# Altium footprint library FPGAlib.PcbLib: 18 footprints (part 2 of 2)
Each footprint in its own frame and in the unit in brackets; x right, y up, seen from the top. Pads: shape width x height; smd on the part's side, far side on the other; paste and mask are expansions set on the pad; w line width, h text height; cw(c..) or ccw(c..) is an arc to the next point about the centre after c.
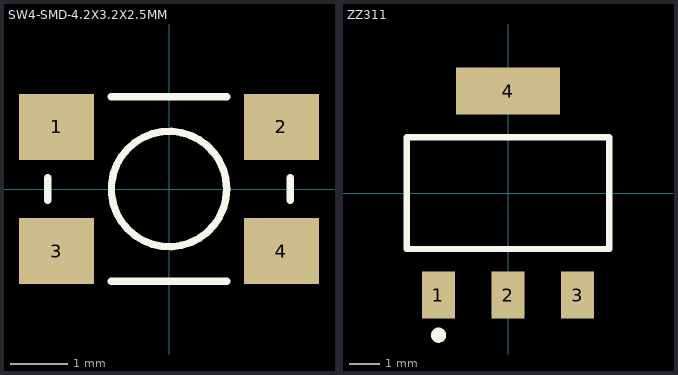
[diagram p1: the footprints below, top view; thin cyan lines are the x and y axes]

## SW4-SMD-4.2X3.2X2.5MM [mm]
pads (4):
  rect 1.3x1.15 smd: 1(-1.95,1.075) 2(1.95,1.075) 3(-1.95,-1.075) 4(1.95,-1.075)
Top Overlay:
  circle w0.127: c0,0 r1
  lines w0.127: -2.1,-0.2 -2.1,0.2 ; -1,-1.6 1,-1.6 ; -1,1.6 1,1.6 ; 2.1,-0.2 2.1,0.2
3D body "User Library-LS8.STEP": height 2.51, standoff -0.09, extent -2.46,-1.563 2.44,1.637

## ZZ311 [mm] "SOT-223/SC-73; 4 Leads; Body 6.7 x 7.3 mm, inc. leads (LxW max)"
height 1.8
pads (4):
  rect 1.1x1.55 smd: 1(-2.3,-3.375) 2(0,-3.375) 3(2.3,-3.375)
  rect 3.45x1.55 smd: 4(0,3.375)
Top Overlay:
  circle w0.25: c-2.3,-4.7 r0.125
  lines w0.2: -3.35,-1.85 3.35,-1.85 3.35,1.85 -3.35,1.85 -3.35,-1.85
3D body "SW3DPS-SOT-223-DEFAULT.STEP": height 1.65, standoff -0.03, extent -3.249,-3.48 3.251,3.48